# EAGLE library part TPS56120X (library VistelV3)
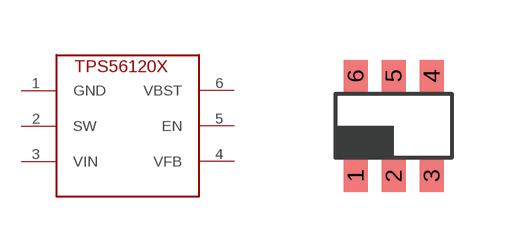
[diagram p0: symbol with the pads of TSOT23-6_DDC; footprint TSOT23-6_DDC]

Designator prefix -

## TPS56120X  [TSOT23-6_DDC]
1  GND
2  SW
3  VIN
4  VFB
5  EN
6  VBST

## Footprint TSOT23-6_DDC (pad centres in mm)
DDC (R-PDSO-G6) PLASTIC SMALL OUTLINE PACKAGE Source: http://focus.ti.com/lit/ds/symlink/tps61070.pdf
smd 0.6 x 0.8: 1 -0.95,-1.25; 2 0,-1.25; 3 0.95,-1.25; 4 0.95,1.25; 5 0,1.25; 6 -0.95,1.25